# Altium footprint library 8PIN对插连接器.PcbLib: 1 footprints
Each footprint in its own frame and in the unit in brackets; x right, y up, seen from the top. Pads: shape width x height; smd on the part's side, far side on the other; paste and mask are expansions set on the pad; w line width, h text height; cw(c..) or ccw(c..) is an arc to the next point about the centre after c.
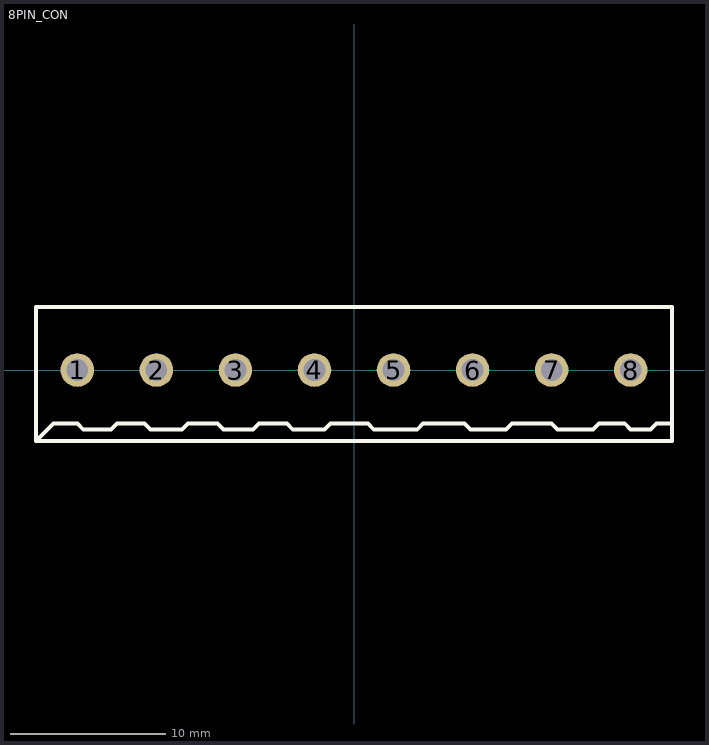
[diagram p0: the footprint, top view; thin cyan lines are the x and y axes]

## 8PIN_CON [mil] "对插连接器"
pads (8):
  round 85 hole 55: 1(-700,0) 2(-500,0) 3(-300,0) 4(-100,0) 5(100,0) 6(300,0) 7(500,0) 8(700,0)
Top Overlay:
  lines w10: 805,-135 765,-135 750,-150 700,-150 685,-135 620,-135 605,-150 515,-150 500,-135 400,-135 385,-150 295,-150 280,-135 175,-135 160,-150 50,-150 35,-135 -60,-135 -75,-150 -155,-150 -170,-135 -240,-135 -255,-150 -330,-150 -345,-135 -420,-135 -435,-150 -515,-150 -530,-135 -600,-135 -615,-150 -685,-150 -700,-135 -760,-135 -805,-180 ; -805,-180 -805,160 805,160 805,-180 -805,-180